# Altium integrated library Linear Technology Power Management Switching Regulator LTC1174-LTC3901.IntLib: 2647 symbols (part 17 of 364)
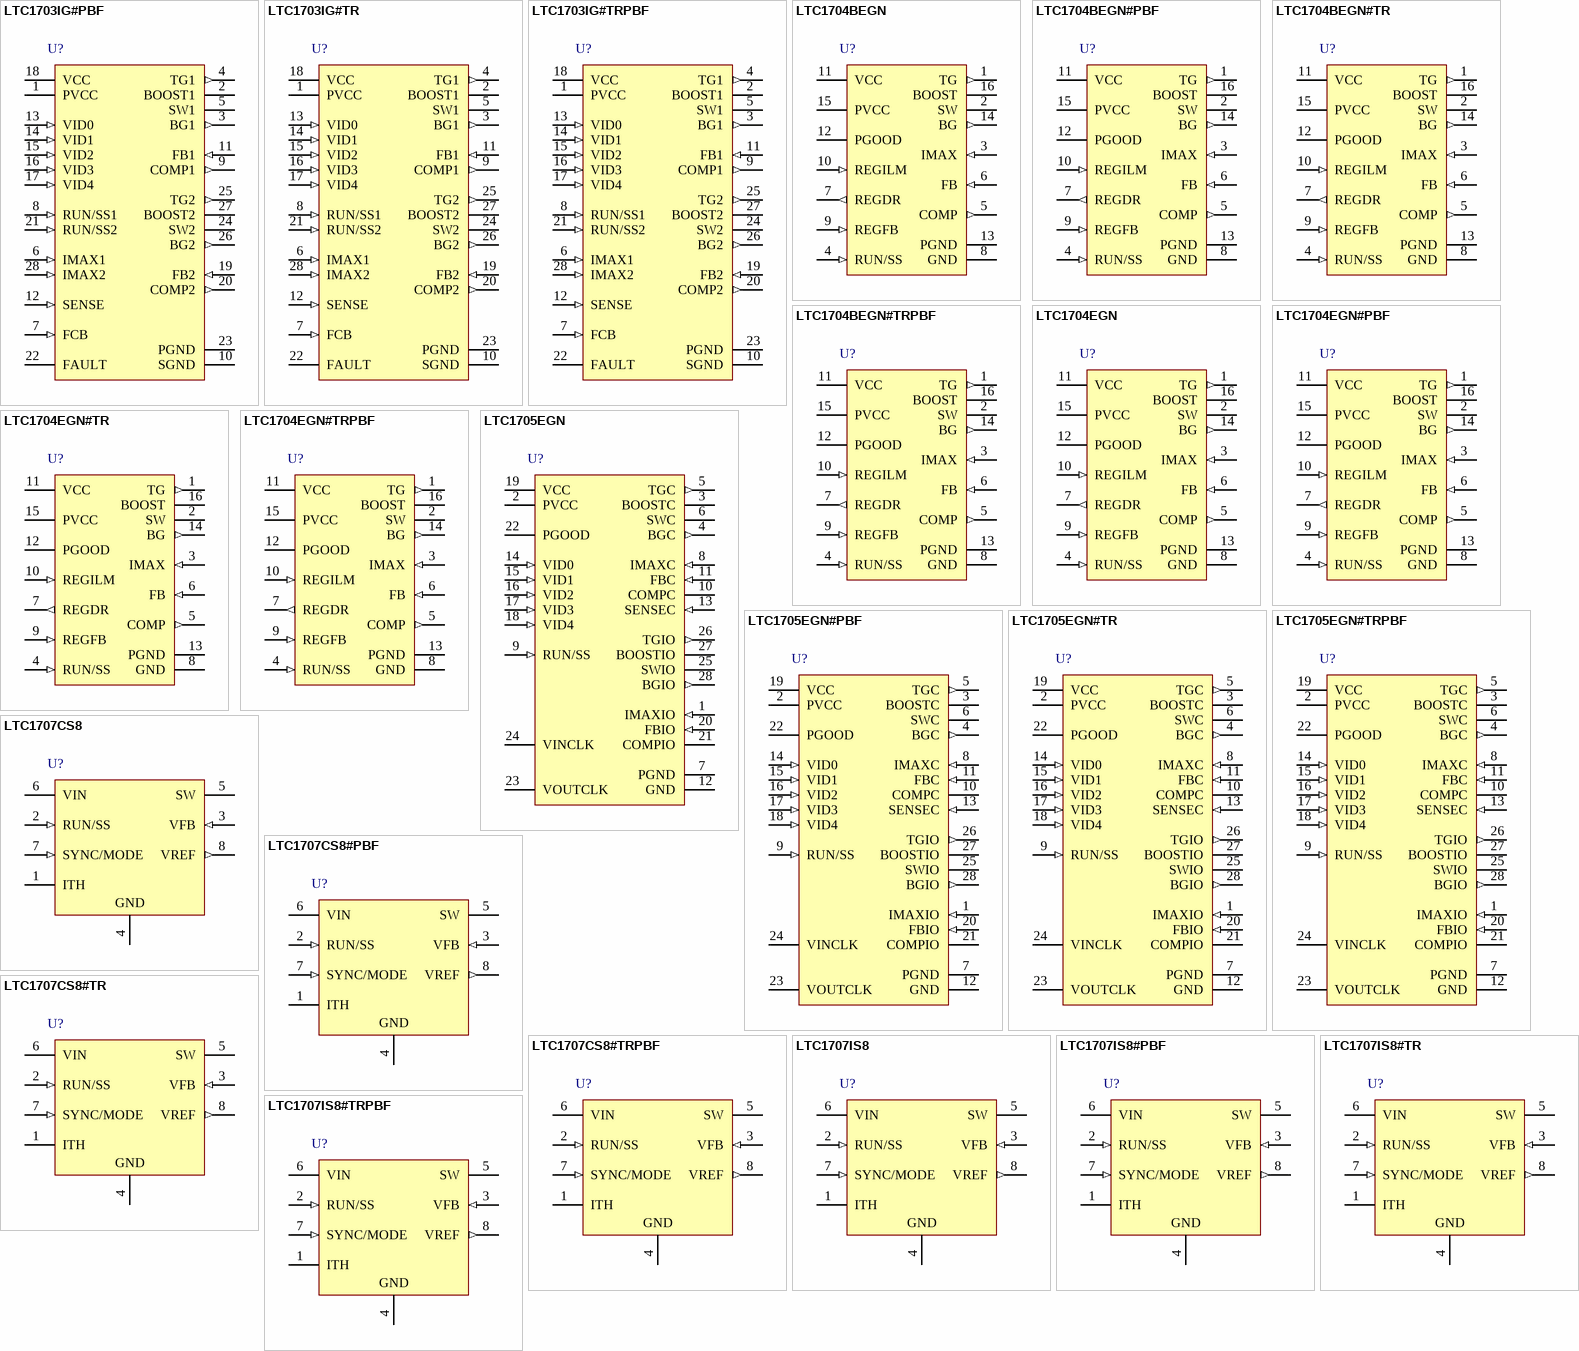
[diagram p124: symbols LTC1703IG#PBF to LTC1707IS8#TRPBF]

## LTC1704EGN
designator U?
Synchronous Step-Down Controller with Linear Regulator Controller, 16-pin SOP (GN-16), -40 to 85 degC; Manufacturer: Linear Technology; PartNumber: LTC1704EGN; Number of Outputs: 2; DatasheetVersion: Rev. A; PackageVersion: Rev. B, 03/2012; PackageReference: GN-16; PackageDescription: 16-Pin Plastic SSOP, Body 4.9 x 3.9 mm, Pitch 0.635 mm; Supplier 1: Digi-Key; Supplier Part Number 1: LTC1704EGN-ND; RoHS: FALSE; Mounting Technology: Surface Mount; ComponentLink1Description: Manufacturer URL; ComponentLink1URL: http://www.linear.com/; ComponentLink2Description: Datasheet; ComponentLink2URL: http://cds.linear.com/docs/en/datasheet/1704bfa.pdf; ComponentLink3Description: Package Specification; ComponentLink3URL: http://cds.linear.com/docs/en/packaging/05081641_B_GN16.pdf
footprint LT-GN-16_N (SOP, 16-Leads, Body 5x4mm, Pitch 0.635mm, IPC Medium Density)
footprint LT-GN-16_L (SOP, 16-Leads, Body 5x4mm, Pitch 0.635mm, IPC High Density)
footprint LT-GN-16_M (SOP, 16-Leads, Body 5x4mm, Pitch 0.635mm, IPC Low Density)
pins: 1 TG (out) "Switcher Controller Top Gate Drive. The TG pin drives the gate of the top N-channel MOSFET, QT. The TG driver draws power from the BOOST pin and returns it to the SW pin, providing true floating drive to QT. TG is designed (See Datasheet)", 2 SW "Switcher Controller Switching Node. Connect SW to the switching node of the main converter. The TG driver ground returns to SW, providing floating gate drive to the top N-channel MOSFET, QT. The voltage at SW is compared to (See Datasheet)", 3 IMAX (in) "Switcher Controller Current Limit Set. The IMAX pin sets the current limit comparator threshold for the switcher controller. If the voltage drop across the bottom MOSFET, QB, exceeds the magnitude of the voltage at IMAX, the (See Datasheet)", 4 RUN/SS (in) "Switcher Controller Soft-Start. A capacitor from RUN/SS to GND controls the turn-on time and rate of rise of the switcher output voltage at power up. An internal 3uA current source pull-up at RUN/SS sets the turn-on time at (See Datasheet)", 5 COMP (out) "Switcher Controller Loop Compensation. The COMP pin is connected directly to the output of the switcher controller’s error amplifier and the input to the PWM comparator. Use an RC network between the COMP pin and the F(See Datasheet)", 6 FB (in) "Switcher Controller Feedback Input. FB should be connected through a resistor divider network to VOUTSW to set the switcher output voltage. Also, connect the switcher loop compensation network to FB.", 7 REGDR (out) "Linear Regulator Controller Driver Output. Connect REGDR to the base of the external NPN Pass transistor. The REGILM pin input current controls the linear regulator controller maximum driving capability.", 8 GND (power) "Signal Ground. All internal low power circuitry returns to the GND pin. Connect to a low impedance ground, separated from the PGND node. All feedback,compensation and soft-start connections should return to GND. GND and PGND (See Datasheet)", 9 REGFB (in) "Linear Regulator Controller Feedback Input. REGFB should be connected through a resistor divider network to VOUTREG to set the output voltage of the linear regulator.", 10 REGILM (in) "Linear Regulator Controller Current Limit Setting cum ON/OFF Control. This pin is internally servoed to 0.8V. An external resistor RREGILM between VCC and REGILM programs the REGILM pin input current. This current determines (See Datasheet)", 11 VCC (power) "Power Supply Input. All internal circuits except the switcher output drivers are powered from this pin. VCC should be connected to a low noise 5V supply, and should be bypassed to GND with at least a 10uF capacitor in close (See Datasheet)", 12 PGOOD (oc) "Power Good. PGOOD is an open-drain logic output. PGOOD pulls low if any of the two supply outputs are outside +/-10% of their nominal levels. An external pull-up resistor is required at PGOOD to allow it to swing positive.", 13 PGND (power) "Power Ground. The BG driver returns to this pin. Connect PGND to a high current ground node in close proximity to the sources of external MOSFET QB, and the VIN and VOUTSW bypass capacitors.", 14 BG (out) "Switcher Controller Bottom Gate Drive. The BG pin drives the gate of the bottom N-channel synchronous switch MOSFET, QB. BG is designed to typically drive up to 10,000pF of gate capacitance.", 15 PVCC (power) "Switcher Controller Bottom Gate Driver Supply. PVCC provides power to the BG output driver. PVCC must be connected to a voltage high enough to fully turn on the external MOSFET, QB. PVCC should generally be connected (See Datasheet)", 16 BOOST "Switcher Controller Top Gate Driver Supply. The BOOST pin supplies power to the floating TG driver. Bypass BOOST to SW with a 1uF capacitor. An external Schottky diode from VIN to BOOST creates a complete floating (See Datasheet)"

## LTC1704EGN#PBF
designator U?
Synchronous Step-Down Controller with Linear Regulator Controller, 16-pin SOP (GN-16), -40 to 85 degC, Pb-Free; Manufacturer: Linear Technology; PartNumber: LTC1704EGN#PBF; Number of Outputs: 2; DatasheetVersion: Rev. A; PackageVersion: Rev. B, 03/2012; PackageReference: GN-16; PackageDescription: 16-Pin Plastic SSOP, Body 4.9 x 3.9 mm, Pitch 0.635 mm; Supplier 1: Digi-Key; Supplier Part Number 1: LTC1704EGN#PBF-ND; Supplier 2: Newark; Supplier Part Number 2: 56M3362; RoHS: TRUE; Mounting Technology: Surface Mount; ComponentLink1Description: Manufacturer URL; ComponentLink1URL: http://www.linear.com/; ComponentLink2Description: Datasheet; ComponentLink2URL: http://cds.linear.com/docs/en/datasheet/1704bfa.pdf; ComponentLink3Description: Package Specification; ComponentLink3URL: http://cds.linear.com/docs/en/packaging/05081641_B_GN16.pdf
footprint LT-GN-16_N (SOP, 16-Leads, Body 5x4mm, Pitch 0.635mm, IPC Medium Density)
footprint LT-GN-16_L (SOP, 16-Leads, Body 5x4mm, Pitch 0.635mm, IPC High Density)
footprint LT-GN-16_M (SOP, 16-Leads, Body 5x4mm, Pitch 0.635mm, IPC Low Density)
pins: 1 TG (out) "Switcher Controller Top Gate Drive. The TG pin drives the gate of the top N-channel MOSFET, QT. The TG driver draws power from the BOOST pin and returns it to the SW pin, providing true floating drive to QT. TG is designed (See Datasheet)", 2 SW "Switcher Controller Switching Node. Connect SW to the switching node of the main converter. The TG driver ground returns to SW, providing floating gate drive to the top N-channel MOSFET, QT. The voltage at SW is compared to (See Datasheet)", 3 IMAX (in) "Switcher Controller Current Limit Set. The IMAX pin sets the current limit comparator threshold for the switcher controller. If the voltage drop across the bottom MOSFET, QB, exceeds the magnitude of the voltage at IMAX, the (See Datasheet)", 4 RUN/SS (in) "Switcher Controller Soft-Start. A capacitor from RUN/SS to GND controls the turn-on time and rate of rise of the switcher output voltage at power up. An internal 3uA current source pull-up at RUN/SS sets the turn-on time at (See Datasheet)", 5 COMP (out) "Switcher Controller Loop Compensation. The COMP pin is connected directly to the output of the switcher controller’s error amplifier and the input to the PWM comparator. Use an RC network between the COMP pin and the F(See Datasheet)", 6 FB (in) "Switcher Controller Feedback Input. FB should be connected through a resistor divider network to VOUTSW to set the switcher output voltage. Also, connect the switcher loop compensation network to FB.", 7 REGDR (out) "Linear Regulator Controller Driver Output. Connect REGDR to the base of the external NPN Pass transistor. The REGILM pin input current controls the linear regulator controller maximum driving capability.", 8 GND (power) "Signal Ground. All internal low power circuitry returns to the GND pin. Connect to a low impedance ground, separated from the PGND node. All feedback,compensation and soft-start connections should return to GND. GND and PGND (See Datasheet)", 9 REGFB (in) "Linear Regulator Controller Feedback Input. REGFB should be connected through a resistor divider network to VOUTREG to set the output voltage of the linear regulator.", 10 REGILM (in) "Linear Regulator Controller Current Limit Setting cum ON/OFF Control. This pin is internally servoed to 0.8V. An external resistor RREGILM between VCC and REGILM programs the REGILM pin input current. This current determines (See Datasheet)", 11 VCC (power) "Power Supply Input. All internal circuits except the switcher output drivers are powered from this pin. VCC should be connected to a low noise 5V supply, and should be bypassed to GND with at least a 10uF capacitor in close (See Datasheet)", 12 PGOOD (oc) "Power Good. PGOOD is an open-drain logic output. PGOOD pulls low if any of the two supply outputs are outside +/-10% of their nominal levels. An external pull-up resistor is required at PGOOD to allow it to swing positive.", 13 PGND (power) "Power Ground. The BG driver returns to this pin. Connect PGND to a high current ground node in close proximity to the sources of external MOSFET QB, and the VIN and VOUTSW bypass capacitors.", 14 BG (out) "Switcher Controller Bottom Gate Drive. The BG pin drives the gate of the bottom N-channel synchronous switch MOSFET, QB. BG is designed to typically drive up to 10,000pF of gate capacitance.", 15 PVCC (power) "Switcher Controller Bottom Gate Driver Supply. PVCC provides power to the BG output driver. PVCC must be connected to a voltage high enough to fully turn on the external MOSFET, QB. PVCC should generally be connected (See Datasheet)", 16 BOOST "Switcher Controller Top Gate Driver Supply. The BOOST pin supplies power to the floating TG driver. Bypass BOOST to SW with a 1uF capacitor. An external Schottky diode from VIN to BOOST creates a complete floating (See Datasheet)"

## LTC1704EGN#TR
designator U?
Synchronous Step-Down Controller with Linear Regulator Controller, 16-pin SOP (GN-16), -40 to 85 degC, Tape and Reel; Manufacturer: Linear Technology; PartNumber: LTC1704EGN#TR; Number of Outputs: 2; DatasheetVersion: Rev. A; PackageVersion: Rev. B, 03/2012; PackageReference: GN-16; PackageDescription: 16-Pin Plastic SSOP, Body 4.9 x 3.9 mm, Pitch 0.635 mm; Supplier 1: Digi-Key; Supplier Part Number 1: LTC1704EGNTR-ND; Packing: Tape and Reel; RoHS: FALSE; Mounting Technology: Surface Mount; ComponentLink1Description: Manufacturer URL; ComponentLink1URL: http://www.linear.com/; ComponentLink2Description: Datasheet; ComponentLink2URL: http://cds.linear.com/docs/en/datasheet/1704bfa.pdf; ComponentLink3Description: Package Specification; ComponentLink3URL: http://cds.linear.com/docs/en/packaging/05081641_B_GN16.pdf
footprint LT-GN-16_N (SOP, 16-Leads, Body 5x4mm, Pitch 0.635mm, IPC Medium Density)
footprint LT-GN-16_L (SOP, 16-Leads, Body 5x4mm, Pitch 0.635mm, IPC High Density)
footprint LT-GN-16_M (SOP, 16-Leads, Body 5x4mm, Pitch 0.635mm, IPC Low Density)
pins: 1 TG (out) "Switcher Controller Top Gate Drive. The TG pin drives the gate of the top N-channel MOSFET, QT. The TG driver draws power from the BOOST pin and returns it to the SW pin, providing true floating drive to QT. TG is designed (See Datasheet)", 2 SW "Switcher Controller Switching Node. Connect SW to the switching node of the main converter. The TG driver ground returns to SW, providing floating gate drive to the top N-channel MOSFET, QT. The voltage at SW is compared to (See Datasheet)", 3 IMAX (in) "Switcher Controller Current Limit Set. The IMAX pin sets the current limit comparator threshold for the switcher controller. If the voltage drop across the bottom MOSFET, QB, exceeds the magnitude of the voltage at IMAX, the (See Datasheet)", 4 RUN/SS (in) "Switcher Controller Soft-Start. A capacitor from RUN/SS to GND controls the turn-on time and rate of rise of the switcher output voltage at power up. An internal 3uA current source pull-up at RUN/SS sets the turn-on time at (See Datasheet)", 5 COMP (out) "Switcher Controller Loop Compensation. The COMP pin is connected directly to the output of the switcher controller’s error amplifier and the input to the PWM comparator. Use an RC network between the COMP pin and the F(See Datasheet)", 6 FB (in) "Switcher Controller Feedback Input. FB should be connected through a resistor divider network to VOUTSW to set the switcher output voltage. Also, connect the switcher loop compensation network to FB.", 7 REGDR (out) "Linear Regulator Controller Driver Output. Connect REGDR to the base of the external NPN Pass transistor. The REGILM pin input current controls the linear regulator controller maximum driving capability.", 8 GND (power) "Signal Ground. All internal low power circuitry returns to the GND pin. Connect to a low impedance ground, separated from the PGND node. All feedback,compensation and soft-start connections should return to GND. GND and PGND (See Datasheet)", 9 REGFB (in) "Linear Regulator Controller Feedback Input. REGFB should be connected through a resistor divider network to VOUTREG to set the output voltage of the linear regulator.", 10 REGILM (in) "Linear Regulator Controller Current Limit Setting cum ON/OFF Control. This pin is internally servoed to 0.8V. An external resistor RREGILM between VCC and REGILM programs the REGILM pin input current. This current determines (See Datasheet)", 11 VCC (power) "Power Supply Input. All internal circuits except the switcher output drivers are powered from this pin. VCC should be connected to a low noise 5V supply, and should be bypassed to GND with at least a 10uF capacitor in close (See Datasheet)", 12 PGOOD (oc) "Power Good. PGOOD is an open-drain logic output. PGOOD pulls low if any of the two supply outputs are outside +/-10% of their nominal levels. An external pull-up resistor is required at PGOOD to allow it to swing positive.", 13 PGND (power) "Power Ground. The BG driver returns to this pin. Connect PGND to a high current ground node in close proximity to the sources of external MOSFET QB, and the VIN and VOUTSW bypass capacitors.", 14 BG (out) "Switcher Controller Bottom Gate Drive. The BG pin drives the gate of the bottom N-channel synchronous switch MOSFET, QB. BG is designed to typically drive up to 10,000pF of gate capacitance.", 15 PVCC (power) "Switcher Controller Bottom Gate Driver Supply. PVCC provides power to the BG output driver. PVCC must be connected to a voltage high enough to fully turn on the external MOSFET, QB. PVCC should generally be connected (See Datasheet)", 16 BOOST "Switcher Controller Top Gate Driver Supply. The BOOST pin supplies power to the floating TG driver. Bypass BOOST to SW with a 1uF capacitor. An external Schottky diode from VIN to BOOST creates a complete floating (See Datasheet)"

## LTC1704EGN#TRPBF
designator U?
Synchronous Step-Down Controller with Linear Regulator Controller, 16-pin SOP (GN-16), -40 to 85 degC, Pb-Free, Tape and Reel; Manufacturer: Linear Technology; PartNumber: LTC1704EGN#TRPBF; Number of Outputs: 2; DatasheetVersion: Rev. A; PackageVersion: Rev. B, 03/2012; PackageReference: GN-16; PackageDescription: 16-Pin Plastic SSOP, Body 4.9 x 3.9 mm, Pitch 0.635 mm; Supplier 1: Digi-Key; Supplier Part Number 1: LTC1704EGN#TRPBF-ND; Packing: Tape and Reel; RoHS: TRUE; Mounting Technology: Surface Mount; ComponentLink1Description: Manufacturer URL; ComponentLink1URL: http://www.linear.com/; ComponentLink2Description: Datasheet; ComponentLink2URL: http://cds.linear.com/docs/en/datasheet/1704bfa.pdf; ComponentLink3Description: Package Specification; ComponentLink3URL: http://cds.linear.com/docs/en/packaging/05081641_B_GN16.pdf
footprint LT-GN-16_N (SOP, 16-Leads, Body 5x4mm, Pitch 0.635mm, IPC Medium Density)
footprint LT-GN-16_L (SOP, 16-Leads, Body 5x4mm, Pitch 0.635mm, IPC High Density)
footprint LT-GN-16_M (SOP, 16-Leads, Body 5x4mm, Pitch 0.635mm, IPC Low Density)
pins: 1 TG (out) "Switcher Controller Top Gate Drive. The TG pin drives the gate of the top N-channel MOSFET, QT. The TG driver draws power from the BOOST pin and returns it to the SW pin, providing true floating drive to QT. TG is designed (See Datasheet)", 2 SW "Switcher Controller Switching Node. Connect SW to the switching node of the main converter. The TG driver ground returns to SW, providing floating gate drive to the top N-channel MOSFET, QT. The voltage at SW is compared to (See Datasheet)", 3 IMAX (in) "Switcher Controller Current Limit Set. The IMAX pin sets the current limit comparator threshold for the switcher controller. If the voltage drop across the bottom MOSFET, QB, exceeds the magnitude of the voltage at IMAX, the (See Datasheet)", 4 RUN/SS (in) "Switcher Controller Soft-Start. A capacitor from RUN/SS to GND controls the turn-on time and rate of rise of the switcher output voltage at power up. An internal 3uA current source pull-up at RUN/SS sets the turn-on time at (See Datasheet)", 5 COMP (out) "Switcher Controller Loop Compensation. The COMP pin is connected directly to the output of the switcher controller’s error amplifier and the input to the PWM comparator. Use an RC network between the COMP pin and the F(See Datasheet)", 6 FB (in) "Switcher Controller Feedback Input. FB should be connected through a resistor divider network to VOUTSW to set the switcher output voltage. Also, connect the switcher loop compensation network to FB.", 7 REGDR (out) "Linear Regulator Controller Driver Output. Connect REGDR to the base of the external NPN Pass transistor. The REGILM pin input current controls the linear regulator controller maximum driving capability.", 8 GND (power) "Signal Ground. All internal low power circuitry returns to the GND pin. Connect to a low impedance ground, separated from the PGND node. All feedback,compensation and soft-start connections should return to GND. GND and PGND (See Datasheet)", 9 REGFB (in) "Linear Regulator Controller Feedback Input. REGFB should be connected through a resistor divider network to VOUTREG to set the output voltage of the linear regulator.", 10 REGILM (in) "Linear Regulator Controller Current Limit Setting cum ON/OFF Control. This pin is internally servoed to 0.8V. An external resistor RREGILM between VCC and REGILM programs the REGILM pin input current. This current determines (See Datasheet)", 11 VCC (power) "Power Supply Input. All internal circuits except the switcher output drivers are powered from this pin. VCC should be connected to a low noise 5V supply, and should be bypassed to GND with at least a 10uF capacitor in close (See Datasheet)", 12 PGOOD (oc) "Power Good. PGOOD is an open-drain logic output. PGOOD pulls low if any of the two supply outputs are outside +/-10% of their nominal levels. An external pull-up resistor is required at PGOOD to allow it to swing positive.", 13 PGND (power) "Power Ground. The BG driver returns to this pin. Connect PGND to a high current ground node in close proximity to the sources of external MOSFET QB, and the VIN and VOUTSW bypass capacitors.", 14 BG (out) "Switcher Controller Bottom Gate Drive. The BG pin drives the gate of the bottom N-channel synchronous switch MOSFET, QB. BG is designed to typically drive up to 10,000pF of gate capacitance.", 15 PVCC (power) "Switcher Controller Bottom Gate Driver Supply. PVCC provides power to the BG output driver. PVCC must be connected to a voltage high enough to fully turn on the external MOSFET, QB. PVCC should generally be connected (See Datasheet)", 16 BOOST "Switcher Controller Top Gate Driver Supply. The BOOST pin supplies power to the floating TG driver. Bypass BOOST to SW with a 1uF capacitor. An external Schottky diode from VIN to BOOST creates a complete floating (See Datasheet)"

## LTC1705EGN
designator U?
Dual 550 kHz Synchronous Switching Regulator Controller with 5-Bit VID and 150 mA LDO, 28-pin SOP (GN-28), -40 to 85 degC; Manufacturer: Linear Technology; PartNumber: LTC1705EGN; Number of Outputs: 3; DatasheetVersion: Rev. A; PackageVersion: Rev. B, 03/2012; PackageReference: GN-28; PackageDescription: 28-Pin Plastic SSOP, Body 9.9 x 3.9 mm, Pitch 0.635 mm; Supplier 1: Digi-Key; Supplier Part Number 1: LTC1705EGN-ND; RoHS: FALSE; Mounting Technology: Surface Mount; ComponentLink1Description: Manufacturer URL; ComponentLink1URL: http://www.linear.com/; ComponentLink2Description: Datasheet; ComponentLink2URL: http://cds.linear.com/docs/en/datasheet/1705fa.pdf; ComponentLink3Description: Package Specification; ComponentLink3URL: http://cds.linear.com/docs/en/packaging/05081641_B_GN28.pdf
footprint LT-GN-28_N (SOP, 28-Leads, Body 9.98x3.98mm, Pitch 0.635mm, IPC Medium Density)
footprint LT-GN-28_L (SOP, 28-Leads, Body 9.98x3.98mm, Pitch 0.635mm, IPC High Density)
footprint LT-GN-28_M (SOP, 28-Leads, Body 9.98x3.98mm, Pitch 0.635mm, IPC Low Density)
pins: 1 IMAXIO (in) "I/O Supply Current Limit Set. The IMAXIO pin sets the current limit comparator threshold for the I/O controller. If the voltage drop across the bottom MOSFET, QBIO, exceeds the magnitude of the voltage at IMAXIO, the I/O (See Datasheet)", 2 PVCC (power) "Driver Power Supply Input. PVCC provides power to the BGC and BGIO output drivers. PVCC must be connected to a voltage high enough to fully turn on the external MOSFETs QBC and QBIO. PVCC should generally be connected (See Datasheet)", 3 BOOSTC "Core Controller Top Gate Driver Supply. The BOOSTC pin supplies power to the floating TGC driver. Bypass BOOSTC to SWC with a 1uF capacitor. An external schottky diode from VIN to BOOSTC creates a complete floating (See Datasheet)", 4 BGC (out) "Core Supply Bottom Gate Drive. The BGC pin drives the gate of the bottom N-channel synchronous switch MOSFET, QBC. BGC is designed to typically drive up to 10,000pF of gate capacitance. If RUN/SS goes low, BGC goes low, (See Datasheet)", 5 TGC (out) "Core Supply Top Gate Drive. The TGC pin drives the gate of the top N-channel MOSFET, QTC. The TGC driver draws power from the BOOSTC pin and returns it to the SWC pin, providing true floating drive to QTC. TGC is designed to (See Datasheet)", 6 SWC "Core Supply Switching Node. Connect SWC to the switching node of the core converter. The TGC driver ground returns to SWC, providing floating gate drive to the top N-channel MOSFET switch, QTC. The voltage at SWC is compared (See Datasheet)", 7 PGND (power) "Power Ground. The BGC and BGIO drivers return to this pin. Connect PGND to a high-current ground node in close proximity to the sources of external MOSFETs QBC and QBIO, and the VIN and VOUT bypass capacitors.", 8 IMAXC (in) "Core Supply Current Limit Set. See IMAXIO.", 9 RUN/SS (in) "SoftStart. Pulling RUN/SS to GND externally shuts down the LTC1705 and turns off all the external MOSFET switches. The quiescent supply current drops below 100uA. A capacitor from RUN/SS to GND controls the turn on time and (See Datasheet)", 10 COMPC "Core Controller Loop Compensation. The COMPC pin is connected directly to the output of the Core controller’s error amplifier and the input of the PWM comparator. Use an RC network between the COMPC pin and the FBC pin t(See Datasheet)", 11 FBC (in) "Core Controller Feedback Input. Connect the loop compensation network for the core controller to FBC. FBC internally connects to the VID resistor network to set the Core output voltage.", 12 GND (power) "Signal Ground. All internal low power circuitry returns to the GND pin. Connect to a low impedance ground, separated from the PGND node. All feedback, compensation and softstart connections should return to GND. GND and PGND (See Datasheet)", 13 SENSEC (in) "Core Controller Output Sense. Connect to VOUTC.", 14 VID0 (in) "VID Programming Inputs. These are logic inputs that set the output voltage at the Core supply to a preprogrammed value (see Table 1). VID4 is the MSB, VID0 is the LSB. The codes selected by the VID inputs correspond to the (See Datasheet)", 15 VID1 (in) "VID Programming Inputs. These are logic inputs that set the output voltage at the Core supply to a preprogrammed value (see Table 1). VID4 is the MSB, VID0 is the LSB. The codes selected by the VID inputs correspond to the (See Datasheet)", 16 VID2 (in) "VID Programming Inputs. These are logic inputs that set the output voltage at the Core supply to a preprogrammed value (see Table 1). VID4 is the MSB, VID0 is the LSB. The codes selected by the VID inputs correspond to the (See Datasheet)", 17 VID3 (in) "VID Programming Inputs. These are logic inputs that set the output voltage at the Core supply to a preprogrammed value (see Table 1). VID4 is the MSB, VID0 is the LSB. The codes selected by the VID inputs correspond to the (See Datasheet)", 18 VID4 (in) "VID Programming Inputs. These are logic inputs that set the output voltage at the Core supply to a preprogrammed value (see Table 1). VID4 is the MSB, VID0 is the LSB. The codes selected by the VID inputs correspond to the (See Datasheet)", 19 VCC (power) "Power Supply Input. All internal circuits except the output drivers are powered from this pin. Connect VCC to a low-noise 5V supply and bypass the pin to GND with at least a 10uF capacitor in close proximity to the LTC1705.", 20 FBIO (in) "I/O Controller Feedback Input. Connect FBIO through a resistor divider network to VOUTIO to set the output voltage. Also, connect the loop compensation network for the I/O controller to FBIO.", 21 COMPIO "I/O Controller Loop Compensation. See COMPC.", 22 PGOOD (oc) "Power Good. PGOOD is an open-drain logic output. PGOOD pulls low if any of the three supply outputs are out of regulation (see Electrical Characteristics table for Core, I/O and CLK thresholds). An external pull-up resistor (See Datasheet)", 23 VOUTCLK (power) "Clock Supply Output. VOUTCLK is the output node of the internal linear clock supply regulator. VOUTCLK provides up to 150mA at the 2.5V output to power the CPU CLK supply. Bypass VOUTCLK with at least a 2.2uF capacitor to (See Datasheet)", 24 VINCLK (power) "Clock Supply Input. VINCLK is the input terminal to the internal linear CLK supply regulator. Connect VINCLK to a 3.3V supply to maximize efficiency. VINCLK can be connected to the 5V supply, but the efficiency of the (See Datasheet)", 25 SWIO "I/O Controller Switching Node. See SWC.", 26 TGIO (out) "I/O Controller Top Gate Drive. See TGC. TGIO is designed to typically drive up to 2,000pF of gate capacitance.", 27 BOOSTIO "I/O Controller Top Gate Driver Power. See BOOSTC.", 28 BGIO (out) "I/O Controller Bottom Gate Drive. See BGC. BGIO is designed to typically drive up to 2,000pF of gate capacitance."

## LTC1705EGN#PBF
designator U?
Dual 550 kHz Synchronous Switching Regulator Controller with 5-Bit VID and 150 mA LDO, 28-pin SOP (GN-28), -40 to 85 degC, Pb-Free; Manufacturer: Linear Technology; PartNumber: LTC1705EGN#PBF; Number of Outputs: 3; DatasheetVersion: Rev. A; PackageVersion: Rev. B, 03/2012; PackageReference: GN-28; PackageDescription: 28-Pin Plastic SSOP, Body 9.9 x 3.9 mm, Pitch 0.635 mm; Supplier 1: Digi-Key; Supplier Part Number 1: LTC1705EGN#PBF-ND; RoHS: TRUE; Mounting Technology: Surface Mount; ComponentLink1Description: Manufacturer URL; ComponentLink1URL: http://www.linear.com/; ComponentLink2Description: Datasheet; ComponentLink2URL: http://cds.linear.com/docs/en/datasheet/1705fa.pdf; ComponentLink3Description: Package Specification; ComponentLink3URL: http://cds.linear.com/docs/en/packaging/05081641_B_GN28.pdf
footprint LT-GN-28_N (SOP, 28-Leads, Body 9.98x3.98mm, Pitch 0.635mm, IPC Medium Density)
footprint LT-GN-28_L (SOP, 28-Leads, Body 9.98x3.98mm, Pitch 0.635mm, IPC High Density)
footprint LT-GN-28_M (SOP, 28-Leads, Body 9.98x3.98mm, Pitch 0.635mm, IPC Low Density)
pins: 1 IMAXIO (in) "I/O Supply Current Limit Set. The IMAXIO pin sets the current limit comparator threshold for the I/O controller. If the voltage drop across the bottom MOSFET, QBIO, exceeds the magnitude of the voltage at IMAXIO, the I/O (See Datasheet)", 2 PVCC (power) "Driver Power Supply Input. PVCC provides power to the BGC and BGIO output drivers. PVCC must be connected to a voltage high enough to fully turn on the external MOSFETs QBC and QBIO. PVCC should generally be connected (See Datasheet)", 3 BOOSTC "Core Controller Top Gate Driver Supply. The BOOSTC pin supplies power to the floating TGC driver. Bypass BOOSTC to SWC with a 1uF capacitor. An external schottky diode from VIN to BOOSTC creates a complete floating (See Datasheet)", 4 BGC (out) "Core Supply Bottom Gate Drive. The BGC pin drives the gate of the bottom N-channel synchronous switch MOSFET, QBC. BGC is designed to typically drive up to 10,000pF of gate capacitance. If RUN/SS goes low, BGC goes low, (See Datasheet)", 5 TGC (out) "Core Supply Top Gate Drive. The TGC pin drives the gate of the top N-channel MOSFET, QTC. The TGC driver draws power from the BOOSTC pin and returns it to the SWC pin, providing true floating drive to QTC. TGC is designed to (See Datasheet)", 6 SWC "Core Supply Switching Node. Connect SWC to the switching node of the core converter. The TGC driver ground returns to SWC, providing floating gate drive to the top N-channel MOSFET switch, QTC. The voltage at SWC is compared (See Datasheet)", 7 PGND (power) "Power Ground. The BGC and BGIO drivers return to this pin. Connect PGND to a high-current ground node in close proximity to the sources of external MOSFETs QBC and QBIO, and the VIN and VOUT bypass capacitors.", 8 IMAXC (in) "Core Supply Current Limit Set. See IMAXIO.", 9 RUN/SS (in) "SoftStart. Pulling RUN/SS to GND externally shuts down the LTC1705 and turns off all the external MOSFET switches. The quiescent supply current drops below 100uA. A capacitor from RUN/SS to GND controls the turn on time and (See Datasheet)", 10 COMPC "Core Controller Loop Compensation. The COMPC pin is connected directly to the output of the Core controller’s error amplifier and the input of the PWM comparator. Use an RC network between the COMPC pin and the FBC pin t(See Datasheet)", 11 FBC (in) "Core Controller Feedback Input. Connect the loop compensation network for the core controller to FBC. FBC internally connects to the VID resistor network to set the Core output voltage.", 12 GND (power) "Signal Ground. All internal low power circuitry returns to the GND pin. Connect to a low impedance ground, separated from the PGND node. All feedback, compensation and softstart connections should return to GND. GND and PGND (See Datasheet)", 13 SENSEC (in) "Core Controller Output Sense. Connect to VOUTC.", 14 VID0 (in) "VID Programming Inputs. These are logic inputs that set the output voltage at the Core supply to a preprogrammed value (see Table 1). VID4 is the MSB, VID0 is the LSB. The codes selected by the VID inputs correspond to the (See Datasheet)", 15 VID1 (in) "VID Programming Inputs. These are logic inputs that set the output voltage at the Core supply to a preprogrammed value (see Table 1). VID4 is the MSB, VID0 is the LSB. The codes selected by the VID inputs correspond to the (See Datasheet)", 16 VID2 (in) "VID Programming Inputs. These are logic inputs that set the output voltage at the Core supply to a preprogrammed value (see Table 1). VID4 is the MSB, VID0 is the LSB. The codes selected by the VID inputs correspond to the (See Datasheet)", 17 VID3 (in) "VID Programming Inputs. These are logic inputs that set the output voltage at the Core supply to a preprogrammed value (see Table 1). VID4 is the MSB, VID0 is the LSB. The codes selected by the VID inputs correspond to the (See Datasheet)", 18 VID4 (in) "VID Programming Inputs. These are logic inputs that set the output voltage at the Core supply to a preprogrammed value (see Table 1). VID4 is the MSB, VID0 is the LSB. The codes selected by the VID inputs correspond to the (See Datasheet)", 19 VCC (power) "Power Supply Input. All internal circuits except the output drivers are powered from this pin. Connect VCC to a low-noise 5V supply and bypass the pin to GND with at least a 10uF capacitor in close proximity to the LTC1705.", 20 FBIO (in) "I/O Controller Feedback Input. Connect FBIO through a resistor divider network to VOUTIO to set the output voltage. Also, connect the loop compensation network for the I/O controller to FBIO.", 21 COMPIO "I/O Controller Loop Compensation. See COMPC.", 22 PGOOD (oc) "Power Good. PGOOD is an open-drain logic output. PGOOD pulls low if any of the three supply outputs are out of regulation (see Electrical Characteristics table for Core, I/O and CLK thresholds). An external pull-up resistor (See Datasheet)", 23 VOUTCLK (power) "Clock Supply Output. VOUTCLK is the output node of the internal linear clock supply regulator. VOUTCLK provides up to 150mA at the 2.5V output to power the CPU CLK supply. Bypass VOUTCLK with at least a 2.2uF capacitor to (See Datasheet)", 24 VINCLK (power) "Clock Supply Input. VINCLK is the input terminal to the internal linear CLK supply regulator. Connect VINCLK to a 3.3V supply to maximize efficiency. VINCLK can be connected to the 5V supply, but the efficiency of the (See Datasheet)", 25 SWIO "I/O Controller Switching Node. See SWC.", 26 TGIO (out) "I/O Controller Top Gate Drive. See TGC. TGIO is designed to typically drive up to 2,000pF of gate capacitance.", 27 BOOSTIO "I/O Controller Top Gate Driver Power. See BOOSTC.", 28 BGIO (out) "I/O Controller Bottom Gate Drive. See BGC. BGIO is designed to typically drive up to 2,000pF of gate capacitance."

## LTC1705EGN#TR
designator U?
Dual 550 kHz Synchronous Switching Regulator Controller with 5-Bit VID and 150 mA LDO, 28-pin SOP (GN-28), -40 to 85 degC, Tape and Reel; Manufacturer: Linear Technology; PartNumber: LTC1705EGN#TR; Number of Outputs: 3; DatasheetVersion: Rev. A; PackageVersion: Rev. B, 03/2012; PackageReference: GN-28; PackageDescription: 28-Pin Plastic SSOP, Body 9.9 x 3.9 mm, Pitch 0.635 mm; Supplier 1: Digi-Key; Supplier Part Number 1: LTC1705EGNTR-ND; Packing: Tape and Reel; RoHS: FALSE; Mounting Technology: Surface Mount; ComponentLink1Description: Manufacturer URL; ComponentLink1URL: http://www.linear.com/; ComponentLink2Description: Datasheet; ComponentLink2URL: http://cds.linear.com/docs/en/datasheet/1705fa.pdf; ComponentLink3Description: Package Specification; ComponentLink3URL: http://cds.linear.com/docs/en/packaging/05081641_B_GN28.pdf
footprint LT-GN-28_N (SOP, 28-Leads, Body 9.98x3.98mm, Pitch 0.635mm, IPC Medium Density)
footprint LT-GN-28_L (SOP, 28-Leads, Body 9.98x3.98mm, Pitch 0.635mm, IPC High Density)
footprint LT-GN-28_M (SOP, 28-Leads, Body 9.98x3.98mm, Pitch 0.635mm, IPC Low Density)
pins: 1 IMAXIO (in) "I/O Supply Current Limit Set. The IMAXIO pin sets the current limit comparator threshold for the I/O controller. If the voltage drop across the bottom MOSFET, QBIO, exceeds the magnitude of the voltage at IMAXIO, the I/O (See Datasheet)", 2 PVCC (power) "Driver Power Supply Input. PVCC provides power to the BGC and BGIO output drivers. PVCC must be connected to a voltage high enough to fully turn on the external MOSFETs QBC and QBIO. PVCC should generally be connected (See Datasheet)", 3 BOOSTC "Core Controller Top Gate Driver Supply. The BOOSTC pin supplies power to the floating TGC driver. Bypass BOOSTC to SWC with a 1uF capacitor. An external schottky diode from VIN to BOOSTC creates a complete floating (See Datasheet)", 4 BGC (out) "Core Supply Bottom Gate Drive. The BGC pin drives the gate of the bottom N-channel synchronous switch MOSFET, QBC. BGC is designed to typically drive up to 10,000pF of gate capacitance. If RUN/SS goes low, BGC goes low, (See Datasheet)", 5 TGC (out) "Core Supply Top Gate Drive. The TGC pin drives the gate of the top N-channel MOSFET, QTC. The TGC driver draws power from the BOOSTC pin and returns it to the SWC pin, providing true floating drive to QTC. TGC is designed to (See Datasheet)", 6 SWC "Core Supply Switching Node. Connect SWC to the switching node of the core converter. The TGC driver ground returns to SWC, providing floating gate drive to the top N-channel MOSFET switch, QTC. The voltage at SWC is compared (See Datasheet)", 7 PGND (power) "Power Ground. The BGC and BGIO drivers return to this pin. Connect PGND to a high-current ground node in close proximity to the sources of external MOSFETs QBC and QBIO, and the VIN and VOUT bypass capacitors.", 8 IMAXC (in) "Core Supply Current Limit Set. See IMAXIO.", 9 RUN/SS (in) "SoftStart. Pulling RUN/SS to GND externally shuts down the LTC1705 and turns off all the external MOSFET switches. The quiescent supply current drops below 100uA. A capacitor from RUN/SS to GND controls the turn on time and (See Datasheet)", 10 COMPC "Core Controller Loop Compensation. The COMPC pin is connected directly to the output of the Core controller’s error amplifier and the input of the PWM comparator. Use an RC network between the COMPC pin and the FBC pin t(See Datasheet)", 11 FBC (in) "Core Controller Feedback Input. Connect the loop compensation network for the core controller to FBC. FBC internally connects to the VID resistor network to set the Core output voltage.", 12 GND (power) "Signal Ground. All internal low power circuitry returns to the GND pin. Connect to a low impedance ground, separated from the PGND node. All feedback, compensation and softstart connections should return to GND. GND and PGND (See Datasheet)", 13 SENSEC (in) "Core Controller Output Sense. Connect to VOUTC.", 14 VID0 (in) "VID Programming Inputs. These are logic inputs that set the output voltage at the Core supply to a preprogrammed value (see Table 1). VID4 is the MSB, VID0 is the LSB. The codes selected by the VID inputs correspond to the (See Datasheet)", 15 VID1 (in) "VID Programming Inputs. These are logic inputs that set the output voltage at the Core supply to a preprogrammed value (see Table 1). VID4 is the MSB, VID0 is the LSB. The codes selected by the VID inputs correspond to the (See Datasheet)", 16 VID2 (in) "VID Programming Inputs. These are logic inputs that set the output voltage at the Core supply to a preprogrammed value (see Table 1). VID4 is the MSB, VID0 is the LSB. The codes selected by the VID inputs correspond to the (See Datasheet)", 17 VID3 (in) "VID Programming Inputs. These are logic inputs that set the output voltage at the Core supply to a preprogrammed value (see Table 1). VID4 is the MSB, VID0 is the LSB. The codes selected by the VID inputs correspond to the (See Datasheet)", 18 VID4 (in) "VID Programming Inputs. These are logic inputs that set the output voltage at the Core supply to a preprogrammed value (see Table 1). VID4 is the MSB, VID0 is the LSB. The codes selected by the VID inputs correspond to the (See Datasheet)", 19 VCC (power) "Power Supply Input. All internal circuits except the output drivers are powered from this pin. Connect VCC to a low-noise 5V supply and bypass the pin to GND with at least a 10uF capacitor in close proximity to the LTC1705.", 20 FBIO (in) "I/O Controller Feedback Input. Connect FBIO through a resistor divider network to VOUTIO to set the output voltage. Also, connect the loop compensation network for the I/O controller to FBIO.", 21 COMPIO "I/O Controller Loop Compensation. See COMPC.", 22 PGOOD (oc) "Power Good. PGOOD is an open-drain logic output. PGOOD pulls low if any of the three supply outputs are out of regulation (see Electrical Characteristics table for Core, I/O and CLK thresholds). An external pull-up resistor (See Datasheet)", 23 VOUTCLK (power) "Clock Supply Output. VOUTCLK is the output node of the internal linear clock supply regulator. VOUTCLK provides up to 150mA at the 2.5V output to power the CPU CLK supply. Bypass VOUTCLK with at least a 2.2uF capacitor to (See Datasheet)", 24 VINCLK (power) "Clock Supply Input. VINCLK is the input terminal to the internal linear CLK supply regulator. Connect VINCLK to a 3.3V supply to maximize efficiency. VINCLK can be connected to the 5V supply, but the efficiency of the (See Datasheet)", 25 SWIO "I/O Controller Switching Node. See SWC.", 26 TGIO (out) "I/O Controller Top Gate Drive. See TGC. TGIO is designed to typically drive up to 2,000pF of gate capacitance.", 27 BOOSTIO "I/O Controller Top Gate Driver Power. See BOOSTC.", 28 BGIO (out) "I/O Controller Bottom Gate Drive. See BGC. BGIO is designed to typically drive up to 2,000pF of gate capacitance."

## LTC1705EGN#TRPBF
designator U?
Dual 550 kHz Synchronous Switching Regulator Controller with 5-Bit VID and 150 mA LDO, 28-pin SOP (GN-28), -40 to 85 degC, Pb-Free, Tape and Reel; Manufacturer: Linear Technology; PartNumber: LTC1705EGN#TRPBF; Number of Outputs: 3; DatasheetVersion: Rev. A; PackageVersion: Rev. B, 03/2012; PackageReference: GN-28; PackageDescription: 28-Pin Plastic SSOP, Body 9.9 x 3.9 mm, Pitch 0.635 mm; Supplier 1: Digi-Key; Supplier Part Number 1: LTC1705EGN#TRPBF-ND; Packing: Tape and Reel; RoHS: TRUE; Mounting Technology: Surface Mount; ComponentLink1Description: Manufacturer URL; ComponentLink1URL: http://www.linear.com/; ComponentLink2Description: Datasheet; ComponentLink2URL: http://cds.linear.com/docs/en/datasheet/1705fa.pdf; ComponentLink3Description: Package Specification; ComponentLink3URL: http://cds.linear.com/docs/en/packaging/05081641_B_GN28.pdf
footprint LT-GN-28_N (SOP, 28-Leads, Body 9.98x3.98mm, Pitch 0.635mm, IPC Medium Density)
footprint LT-GN-28_L (SOP, 28-Leads, Body 9.98x3.98mm, Pitch 0.635mm, IPC High Density)
footprint LT-GN-28_M (SOP, 28-Leads, Body 9.98x3.98mm, Pitch 0.635mm, IPC Low Density)
pins: 1 IMAXIO (in) "I/O Supply Current Limit Set. The IMAXIO pin sets the current limit comparator threshold for the I/O controller. If the voltage drop across the bottom MOSFET, QBIO, exceeds the magnitude of the voltage at IMAXIO, the I/O (See Datasheet)", 2 PVCC (power) "Driver Power Supply Input. PVCC provides power to the BGC and BGIO output drivers. PVCC must be connected to a voltage high enough to fully turn on the external MOSFETs QBC and QBIO. PVCC should generally be connected (See Datasheet)", 3 BOOSTC "Core Controller Top Gate Driver Supply. The BOOSTC pin supplies power to the floating TGC driver. Bypass BOOSTC to SWC with a 1uF capacitor. An external schottky diode from VIN to BOOSTC creates a complete floating (See Datasheet)", 4 BGC (out) "Core Supply Bottom Gate Drive. The BGC pin drives the gate of the bottom N-channel synchronous switch MOSFET, QBC. BGC is designed to typically drive up to 10,000pF of gate capacitance. If RUN/SS goes low, BGC goes low, (See Datasheet)", 5 TGC (out) "Core Supply Top Gate Drive. The TGC pin drives the gate of the top N-channel MOSFET, QTC. The TGC driver draws power from the BOOSTC pin and returns it to the SWC pin, providing true floating drive to QTC. TGC is designed to (See Datasheet)", 6 SWC "Core Supply Switching Node. Connect SWC to the switching node of the core converter. The TGC driver ground returns to SWC, providing floating gate drive to the top N-channel MOSFET switch, QTC. The voltage at SWC is compared (See Datasheet)", 7 PGND (power) "Power Ground. The BGC and BGIO drivers return to this pin. Connect PGND to a high-current ground node in close proximity to the sources of external MOSFETs QBC and QBIO, and the VIN and VOUT bypass capacitors.", 8 IMAXC (in) "Core Supply Current Limit Set. See IMAXIO.", 9 RUN/SS (in) "SoftStart. Pulling RUN/SS to GND externally shuts down the LTC1705 and turns off all the external MOSFET switches. The quiescent supply current drops below 100uA. A capacitor from RUN/SS to GND controls the turn on time and (See Datasheet)", 10 COMPC "Core Controller Loop Compensation. The COMPC pin is connected directly to the output of the Core controller’s error amplifier and the input of the PWM comparator. Use an RC network between the COMPC pin and the FBC pin t(See Datasheet)", 11 FBC (in) "Core Controller Feedback Input. Connect the loop compensation network for the core controller to FBC. FBC internally connects to the VID resistor network to set the Core output voltage.", 12 GND (power) "Signal Ground. All internal low power circuitry returns to the GND pin. Connect to a low impedance ground, separated from the PGND node. All feedback, compensation and softstart connections should return to GND. GND and PGND (See Datasheet)", 13 SENSEC (in) "Core Controller Output Sense. Connect to VOUTC.", 14 VID0 (in) "VID Programming Inputs. These are logic inputs that set the output voltage at the Core supply to a preprogrammed value (see Table 1). VID4 is the MSB, VID0 is the LSB. The codes selected by the VID inputs correspond to the (See Datasheet)", 15 VID1 (in) "VID Programming Inputs. These are logic inputs that set the output voltage at the Core supply to a preprogrammed value (see Table 1). VID4 is the MSB, VID0 is the LSB. The codes selected by the VID inputs correspond to the (See Datasheet)", 16 VID2 (in) "VID Programming Inputs. These are logic inputs that set the output voltage at the Core supply to a preprogrammed value (see Table 1). VID4 is the MSB, VID0 is the LSB. The codes selected by the VID inputs correspond to the (See Datasheet)", 17 VID3 (in) "VID Programming Inputs. These are logic inputs that set the output voltage at the Core supply to a preprogrammed value (see Table 1). VID4 is the MSB, VID0 is the LSB. The codes selected by the VID inputs correspond to the (See Datasheet)", 18 VID4 (in) "VID Programming Inputs. These are logic inputs that set the output voltage at the Core supply to a preprogrammed value (see Table 1). VID4 is the MSB, VID0 is the LSB. The codes selected by the VID inputs correspond to the (See Datasheet)", 19 VCC (power) "Power Supply Input. All internal circuits except the output drivers are powered from this pin. Connect VCC to a low-noise 5V supply and bypass the pin to GND with at least a 10uF capacitor in close proximity to the LTC1705.", 20 FBIO (in) "I/O Controller Feedback Input. Connect FBIO through a resistor divider network to VOUTIO to set the output voltage. Also, connect the loop compensation network for the I/O controller to FBIO.", 21 COMPIO "I/O Controller Loop Compensation. See COMPC.", 22 PGOOD (oc) "Power Good. PGOOD is an open-drain logic output. PGOOD pulls low if any of the three supply outputs are out of regulation (see Electrical Characteristics table for Core, I/O and CLK thresholds). An external pull-up resistor (See Datasheet)", 23 VOUTCLK (power) "Clock Supply Output. VOUTCLK is the output node of the internal linear clock supply regulator. VOUTCLK provides up to 150mA at the 2.5V output to power the CPU CLK supply. Bypass VOUTCLK with at least a 2.2uF capacitor to (See Datasheet)", 24 VINCLK (power) "Clock Supply Input. VINCLK is the input terminal to the internal linear CLK supply regulator. Connect VINCLK to a 3.3V supply to maximize efficiency. VINCLK can be connected to the 5V supply, but the efficiency of the (See Datasheet)", 25 SWIO "I/O Controller Switching Node. See SWC.", 26 TGIO (out) "I/O Controller Top Gate Drive. See TGC. TGIO is designed to typically drive up to 2,000pF of gate capacitance.", 27 BOOSTIO "I/O Controller Top Gate Driver Power. See BOOSTC.", 28 BGIO (out) "I/O Controller Bottom Gate Drive. See BGC. BGIO is designed to typically drive up to 2,000pF of gate capacitance."

## LTC1707CS8
designator U?
High Efficiency Monolithic Synchronous Step-Down Switching Regulator, 8-pin SOIC (S8-8), 0 to 70 degC; Manufacturer: Linear Technology; PartNumber: LTC1707CS8; Frequency Sync Range: 315kHz - 550kHz; Number of Outputs: 1; PackageVersion: Rev. G, 03/2012; PackageReference: S8-8; PackageDescription: 8-Pin Plastic Small Outline (Narrow .150 Inch), Body 4.9 x 3.9 mm, Pitch 1.27 mm; Supplier 1: Digi-Key; Supplier Part Number 1: LTC1707CS8-ND; RoHS: FALSE; Mounting Technology: Surface Mount; ComponentLink1Description: Manufacturer URL; ComponentLink1URL: http://www.linear.com/; ComponentLink2Description: Datasheet; ComponentLink2URL: http://cds.linear.com/docs/en/datasheet/1707f.pdf; ComponentLink3Description: Package Specification; ComponentLink3URL: http://cds.linear.com/docs/en/packaging/05081610_G_SO8.pdf
footprint LT-S8-8_N (SOIC, 8-Leads, Body 5x4mm, Pitch 1.27mm, IPC Medium Density)
footprint LT-S8-8_L (SOIC, 8-Leads, Body 5x4mm, Pitch 1.27mm, IPC High Density)
footprint LT-S8-8_M (SOIC, 8-Leads, Body 5x4mm, Pitch 1.27mm, IPC Low Density)
pins: 1 ITH "Error Amplifier Compensation Point. The current comparator threshold increases with this control voltage. Nominal voltage range for this pin is 0V to 1.2V.", 2 RUN/SS (in), 3 VFB (in) "Feedback Pin. Receives the feedback voltage from an external resistive divider across the output.", 4 GND (power) "Ground Pin.", 5 SW (power) "Switch Node Connection to Inductor. This pin connects to the drains of the internal main and synchronous power MOSFET switches.", 6 VIN (power) "Main Supply Pin. Must be closely decoupled to GND, Pin 4.", 7 SYNC/MODE (in), 8 VREF (out) "The Output of a 1.19V +/-1% Precision Reference. May be loaded up to 100uA and is stable with up to 2000pF load capacitance."